# EAGLE library part 62104021021 (library Wuerth_Elektronik_eiCan_Pin_&_Socked_Headers_v1.3)
WR-PHD 1.27mm Dual SMT Pin Header H=3.80 mm, 40 Pins
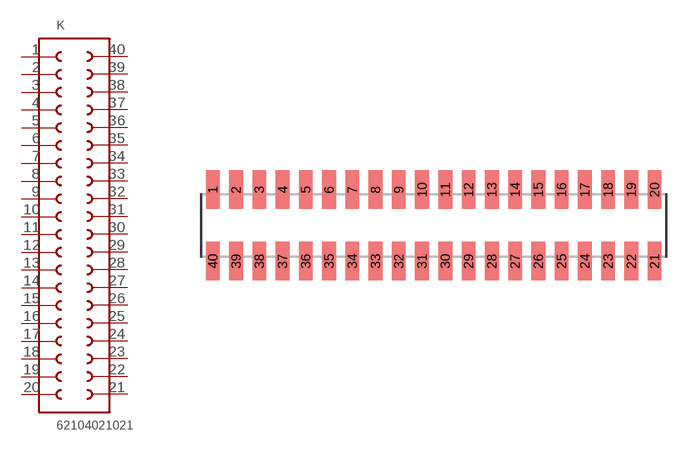
[diagram p333: symbol with the pads of 62104021021; footprint 62104021021]

Designator prefix K

## 62104021021  [62104021021]
1  1  pas
2  2  pas
3  3  pas
4  4  pas
5  5  pas
6  6  pas
7  7  pas
8  8  pas
9  9  pas
10  10  pas
11  11  pas
12  12  pas
13  13  pas
14  14  pas
15  15  pas
16  16  pas
17  17  pas
18  18  pas
19  19  pas
20  20  pas
21  21  pas
22  22  pas
23  23  pas
24  24  pas
25  25  pas
26  26  pas
27  27  pas
28  28  pas
29  29  pas
30  30  pas
31  31  pas
32  32  pas
33  33  pas
34  34  pas
35  35  pas
36  36  pas
37  37  pas
38  38  pas
39  39  pas
40  40  pas

## Footprint 62104021021 (pad centres in mm)
WR-PHD 1.27mm Dual SMT Pin Header H=3.80 mm, 40 Pins
smd 0.75 x 2.1: 1 -12.065,1.95; 2 -10.795,1.95; 3 -9.525,1.95; 4 -8.255,1.95; 5 -6.985,1.95; 6 -5.715,1.95; 7 -4.445,1.95; 8 -3.175,1.95; 9 -1.905,1.95; 10 -0.635,1.95; 11 0.635,1.95; 12 1.905,1.95; 13 3.175,1.95; 14 4.445,1.95; 15 5.715,1.95; 16 6.985,1.95; 17 8.255,1.95; 18 9.525,1.95; 19 10.795,1.95; 20 12.065,1.95; 21 12.065,-1.95; 22 10.795,-1.95; 23 9.525,-1.95; 24 8.255,-1.95; 25 6.985,-1.95; 26 5.715,-1.95; 27 4.445,-1.95; 28 3.175,-1.95; 29 1.905,-1.95; 30 0.635,-1.95; 31 -0.635,-1.95; 32 -1.905,-1.95; 33 -3.175,-1.95; 34 -4.445,-1.95; 35 -5.715,-1.95; 36 -6.985,-1.95; 37 -8.255,-1.95; 38 -9.525,-1.95; 39 -10.795,-1.95; 40 -12.065,-1.95